# EAGLE library part 4455-C21 (library con-molex-kk)
RECEPTACAL
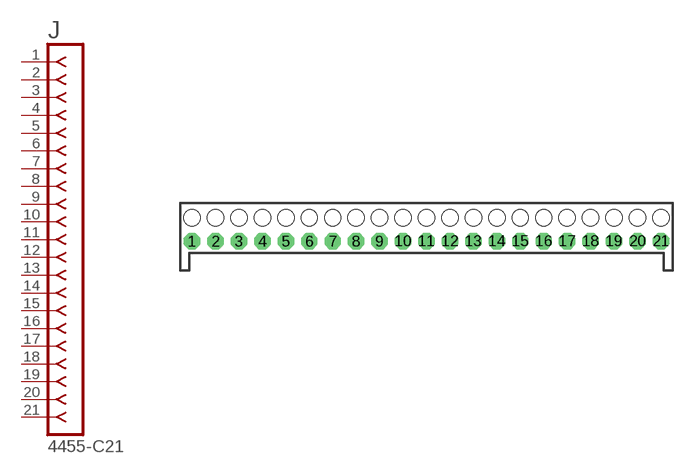
[diagram p28: symbol with the pads of 4455-C21; footprint 4455-C21]

Designator prefix J

## 4455-C21  [4455-C21]
1  1  pas
2  2  pas
3  3  pas
4  4  pas
5  5  pas
6  6  pas
7  7  pas
8  8  pas
9  9  pas
10  10  pas
11  11  pas
12  12  pas
13  13  pas
14  14  pas
15  15  pas
16  16  pas
17  17  pas
18  18  pas
19  19  pas
20  20  pas
21  21  pas

## Footprint 4455-C21 (pad centres in mm)
RECEPTACAL Vertical, Top Entry, 0.1" pitch
drill 1.016 pad 1.778 octagon: 1 -25.4,0; 2 -22.86,0; 3 -20.32,0; 4 -17.78,0; 5 -15.24,0; 6 -12.7,0; 7 -10.16,0; 8 -7.62,0; 9 -5.08,0; 10 -2.54,0; 11 0,0; 12 2.54,0; 13 5.08,0; 14 7.62,0; 15 10.16,0; 16 12.7,0; 17 15.24,0; 18 17.78,0; 19 20.32,0; 20 22.86,0; 21 25.4,0
hole 1.778 at -25.4,2.54
hole 1.778 at -22.86,2.54
hole 1.778 at -20.32,2.54
hole 1.778 at -17.78,2.54
hole 1.778 at -15.24,2.54
hole 1.778 at -12.7,2.54
hole 1.778 at -10.16,2.54
hole 1.778 at -7.62,2.54
hole 1.778 at -5.08,2.54
hole 1.778 at -2.54,2.54
hole 1.778 at 0,2.54
hole 1.778 at 2.54,2.54
hole 1.778 at 5.08,2.54
hole 1.778 at 7.62,2.54
hole 1.778 at 10.16,2.54
hole 1.778 at 12.7,2.54
hole 1.778 at 15.24,2.54
hole 1.778 at 17.78,2.54
hole 1.778 at 20.32,2.54
hole 1.778 at 22.86,2.54
hole 1.778 at 25.4,2.54